# EAGLE library part MS560702BA03-50 (library MS560702BA03-50)
MS560702BA03-50, Barometric Pressure Sensor, 1200mbar 0 3.6 V Output, 8-Pin QFN Source: Datasheet <http://www.te.com/commerce/DocumentDelivery/DDEController?Action=srchrtrv&DocNm=MS5607-02BA03&DocType=Data Sheet&DocLang=English>
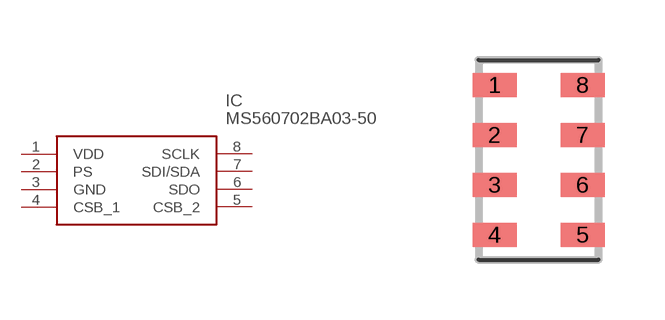
[diagram p0: symbol with the pads of MS5607-02BA03; footprint MS5607-02BA03]

Designator prefix IC

## MS560702BA03-50 (Arrow_Part_Number: MS560702BA03-50; Arrow_Price-Stock: https://www.arrow.com/en/products/ms560702ba03-50/te-connectivity?region=europe; Description: MS560702BA03-50, Barometric Pressure Sensor, 1200mbar 0 3.6 V Output, 8-Pin QFN; Height: mm; Manufacturer_Name: TE Connectivity; Manufacturer_Part_Number: MS560702BA03-50; Mouser_Part_Number: 824-MS560702BA03-50; Mouser_Price-Stock: https://www.mouser.co.uk/ProductDetail/Measurement-Specialties/MS560702BA03-50?qs=urSpXqmdEVImCZG1H%252BT8ng%3D%3D)  [MS5607-02BA03]
1  VDD  pwr
2  PS  in
3  GND  pwr
4  CSB_1  in
5  CSB_2  in
6  SDO  out
7  SDI/SDA
8  SCLK  in

## Footprint MS5607-02BA03 (pad centres in mm)
MS5607-02BA03
smd 1.1 x 0.6: 1 -1.1,1.875; 2 -1.1,0.625; 3 -1.1,-0.625; 4 -1.1,-1.875; 5 1.1,-1.875; 6 1.1,-0.625; 7 1.1,0.625; 8 1.1,1.875